# Altium schematic symbol library Components - 04.11.21 - 19.03.SchLib: 1 symbol
Pins are listed as number, name and electrical type; pins without a type are passive.

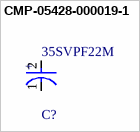
[diagram p0: symbol CMP-05428-000019-1]

## CMP-05428-000019-1
designator C?, comment 35SVPF22M
CAP ALUM POLY 22UF 20% 35V SMD; Ripple Current (AC): 2.6A; Life (Hours): 5000Hour; Leakage Current: 154uA; Polarity: Polar; Dissipation Factor: 12%; ESR (Equivalent Series Resistance): 35mR; Height - Seated (Max): 0.236inch; Case/Package: Radial; Height: 5.9mm; Number of Pins: 6; Diameter: 6.3mm; Packaging: Tape and Reel; Voltage Rating (DC): 35V; Max Operating Temperature: 105°C; Ripple Current: 2.6A; Voltage Rating: 35V; Tolerance: 20%; Min Operating Temperature: -55°C; Mount: Surface Mount; REACH SVHC: No SVHC; Length: 5.9mm; Capacitance: 22uF; Package Quantity: 1000; Voltage: 35V; Termination: SMD/SMT
footprint FP-SVPFC6-MFG
pins: 1 C, 2 A
text: +